# EAGLE library part SN65LVDS050 (library power_distribution)
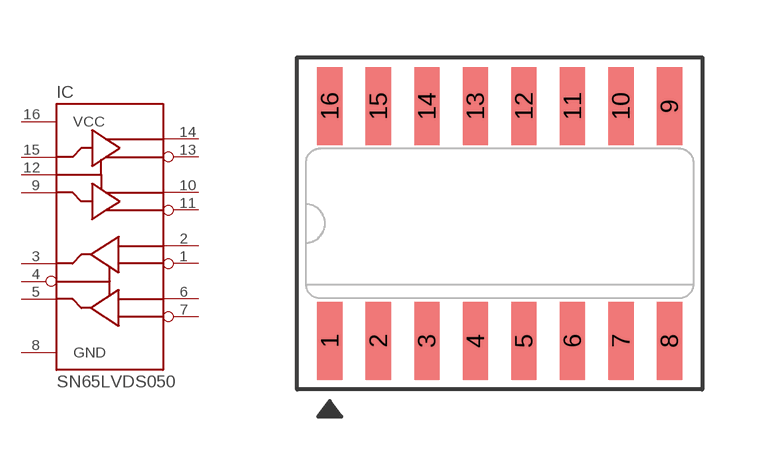
[diagram p13: symbol with the pads of SO16; footprint SO16]

Designator prefix IC

## SN65LVDS050 (MF: Texas Instruments; MOUSER: 595-SN65LVDS050DR; MPN: SN65LVDS050D), SN65LVDS050D (MF: Texas Instruments; MOUSER: 595-SN65LVDS050DR; MPN: SN65LVDS050D)  [SO16]
1  1B
2  1A
3  1R
4  RE
5  2R
6  2A
7  2B
8  GND
9  2D
10  2Y
11  2Z
12  DE
13  1Z
14  1Y
15  1D
16  VCC

## Footprint SO16 (pad centres in mm)
Small Outline package 150 mil
smd 0.66 x 2.032: 1 -4.445,-3.073; 2 -3.175,-3.073; 3 -1.905,-3.073; 4 -0.635,-3.073; 5 0.635,-3.073; 6 1.905,-3.073; 7 3.175,-3.073; 8 4.445,-3.073; 9 4.445,3.073; 10 3.175,3.073; 11 1.905,3.073; 12 0.635,3.073; 13 -0.635,3.073; 14 -1.905,3.073; 15 -3.175,3.073; 16 -4.445,3.073